# Altium integrated library lib_invensense.IntLib: 3 symbols
Pins are listed as number, name and electrical type; pins without a type are passive.

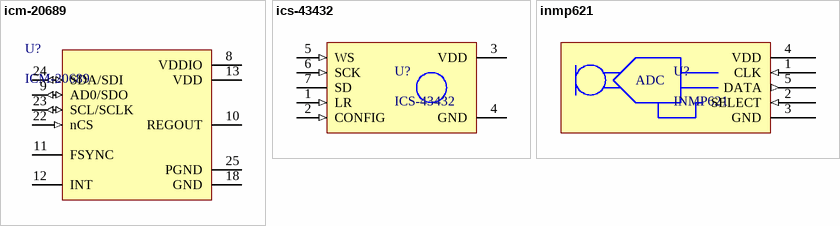
[diagram p0: symbols icm-20689 to inmp621]

## icm-20689
designator U?, comment ICM-20689
6axis acc+gyro
footprint QFN50P400X400X95_HS-25N (QFN, 24-Leads, Body 4.00x4.00mm, Pitch 0.50mm, Thermal Pad 2.60x2.70mm, IPC Medium Density)
pins: 8 VDDIO (power), 9 AD0/SDO (io), 10 REGOUT (power), 11 FSYNC (oc), 12 INT (oc), 13 VDD (power), 18 GND (power), 22 nCS (in), 23 SCL/SCLK (io), 24 SDA/SDI (io), 25 PGND

## ics-43432
designator U?, comment ICS-43432
footprint PSON65P300X110-6N (PSON, 6-Leads, Body 4,00x3,00mm, Pitch 0,65mm, IPC Medium Density)
pins: 1 LR (in), 2 CONFIG (in), 3 VDD (power), 4 GND (power), 5 WS (in), 6 SCK (in), 7 SD (oc)

## inmp621
designator U?, comment INMP621
Wide Dynamic Range Microphone with PDM Digital Output; ComponentLink1Description: datasheet; ComponentLink1URL: https://www.invensense.com/wp-content/uploads/2015/02/INMP621.pdf
footprint SON70P300X90-4N (SON, 4-Leads, Body 4,00x3,00mm, Pitch 0,70mm, IPC Medium Density)
pins: 1 CLK (in), 2 SELECT (in), 3 GND (power), 4 VDD (power), 5 DATA (out)
text: ADC